# Altium footprint library control.PcbLib: 24 footprints (part 1 of 2)
Each footprint in its own frame and in the unit in brackets; x right, y up, seen from the top. Pads: shape width x height; smd on the part's side, far side on the other; paste and mask are expansions set on the pad; w line width, h text height; cw(c..) or ccw(c..) is an arc to the next point about the centre after c.
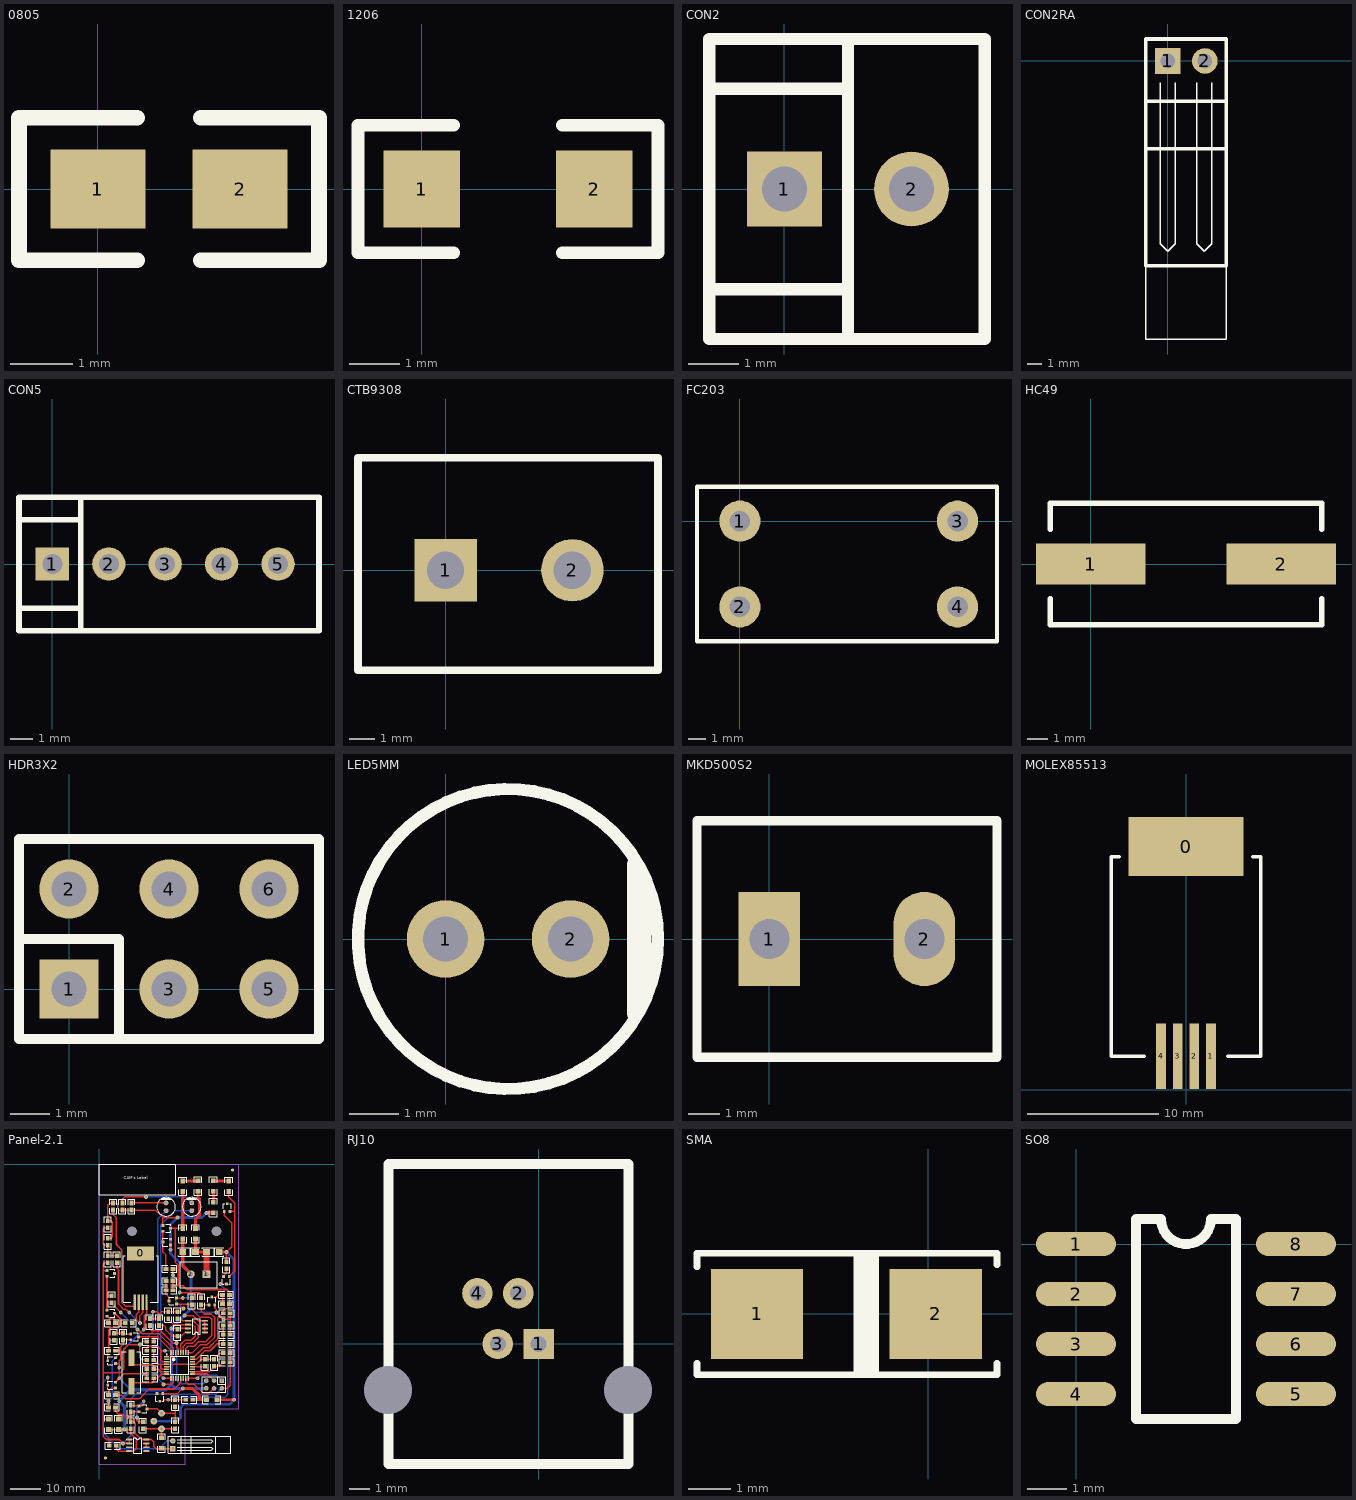
[diagram p0: the footprints below, top view; thin cyan lines are the x and y axes]

## 0805 [mil] "SMD 0805"
pads (2):
  rect 60x50 smd: 1(0,0) 2(90,0)
Top Overlay:
  lines w9.84: 25,-45 -50,-45 -50,45 25,45 ; 65,-45 140,-45 140,45 65,45

## 1206 [mil] "SMD 1206"
height 47.24
pads (2):
  rect 60x60 smd: 1(0,0) 2(135,0)
Top Overlay:
  lines w9.84: 25,-50 -50,-50 -50,50 25,50 ; 110,-50 185,-50 185,50 110,50

## CON2 [mm] "SIL CONNECTOR"
height 10
pads (2):
  rect 1.5x1.5 hole 0.9: 1(0,0)
  round 1.5 hole 0.9: 2(2.54,0)
Top Overlay:
  lines w0.25: -1.5,-2 1.25,-2 ; -1.5,2 1.25,2 ; 0.5,-3 4,-3 4,3 -1.5,3 -1.5,-3 0.635,-3 ; 1.27,-3 1.27,3

## CON2RA [mm] "SIL CONNECTOR"
height 10
pads (2):
  rect 1.75x1.75 hole 1: 1(0,0)
  round 1.75 hole 1: 2(2.54,0)
Top Overlay:
  lines w0.1: -1.5,-14 -1.5,-19 4,-19 4,-14 ; -0.5,-1.5 -0.5,-12.5 0,-13 0.5,-12.5 0.5,-1.5 ; 2,-1.5 2,-12.5 2.5,-13 3,-12.5 3,-1.5
  lines w0.25: -1.5,-2.75 4,-2.75 ; -1.5,-6 -1.5,-14 4,-14 4,-6 ; -1.5,-6 -1.5,1.5 4,1.5 4,-6 ; -1.5,-6 4,-6

## CON5 [mm] "SIL CONNECTOR"
height 10
pads (5):
  rect 1.5x1.5 hole 0.9: 1(0,0)
  round 1.5 hole 0.9: 2(2.54,0) 3(5.08,0) 4(7.62,0) 5(10.16,0)
Top Overlay:
  lines w0.25: -1.5,-2 1.25,-2 ; -1.5,2 1.25,2 ; 0.5,-3 12,-3 12,3 -1.5,3 -1.5,-3 0.635,-3 ; 1.27,-3 1.27,3

## CTB9308 [mm] "PLUGGABLE SCREW TERMINAL"
pads (2):
  rect 2.5x2.5 hole 1.5: 1(0,0)
  round 2.5 hole 1.5: 2(5.08,0)
Top Overlay:
  lines w0.305: -3.5,-4 8.5,-4 8.5,4.5 -3.5,4.5 -3.5,-4

## FC203 [mm] "Fuse Holder 5 x 15 mm"
pads (4):
  round 2.4 hole 1.2: 1(0,0) 2(0,-5) 3(12.7,0) 4(12.7,-5)
Top Overlay:
  lines w0.25: -2.5,-7 -2.5,2 15,2 15,-7 -2.5,-7

## HC49 [mm]
pads (2):
  rect 5.4x2 smd: 1(0,0) 2(9.4,0)
Top Overlay:
  lines w0.254: -2,-1.7 -2,-3 11.4,-3 11.4,-1.7 ; -2,1.7 -2,3 11.4,3 11.4,1.7

## HDR3X2 [mm] "Header 3 x 2"
height 10
pads (6):
  rect 1.5x1.5 hole 0.9: 1(0,0)
  round 1.5 hole 0.9: 2(0,2.54) 3(2.54,0) 4(2.54,2.54) 5(5.08,0) 6(5.08,2.54)
Top Overlay:
  lines w0.254: -1.27,1.27 1.27,1.27 1.27,-1.27 ; -1.27,-1.27 0.635,-1.27 6.35,-1.27 6.35,3.81 0.635,3.81 -1.27,3.81 -1.27,-1.27

## LED5MM [mil]
pads (2):
  round 62 hole 36: 1(0,0) 2(100,0)
Top Overlay:
  circle w9.84: c50,0 r120
  lines w9.84: 150,-60 150,60 ; 157.48,-49.21 157.48,49.21 ; 160,-40 160,40

## MKD500S2 [mil]
pads (2):
  rect 78x120 hole 51.18: 1(0,0)
  oval 78x120 hole 51.18: 2(196.85,0)
Top Overlay:
  lines w12: -92,-150 -92,150 289,150 289,-150 -92,-150

## MOLEX85513 [mm] "MOD JACK 4P4C SMD"
pads (5):
  rect 8.8x4.5 smd: 0(0,18.55)
  rect 0.75x5 smd: 1(1.905,2.54) 2(0.635,2.54) 3(-0.635,2.54) 4(-1.905,2.54)
Top Overlay:
  lines w0.25: -5.08,17.78 -5.715,17.78 -5.715,2.54 -3.175,2.54 ; 3.175,2.54 5.715,2.54 5.715,17.78 5.08,17.78

## Panel-2.1 [mm]
pads (237):
  round 0 hole 3.2 unplated: 0(10.7,-22) 0(38.3,-22)
  rect 8.8x4.5 smd: 0(13.5,-29.2)
  round 1 smd paste-1 mask+1: 1(2,-96) 1(43.5,-2)
  rect 0.95x0.9 smd: 1(2.5,-47.8) 1(2.5,-34.8) 1(5.25,-65.2) 1(5.25,-73.2) 1(10.25,-55.55) 1(13,-79.05) 1(20.75,-20.05) 1(23.25,-26.45) 1(25.25,-45.7) 2(2.5,-49.7) 2(2.5,-36.7) 2(5.25,-63.3) 2(5.25,-71.3) 2(10.25,-57.45) 2(13,-80.95) 2(20.75,-21.95) 2(23.25,-24.55) 2(25.25,-43.8) 3(2.75,-64.25) 3(2.75,-72.25) 3(5,-48.75) 3(5,-35.75) 3(12.75,-56.5) 3(15.5,-80) 3(20.75,-25.5) 3(22.75,-44.75) 3(23.25,-21)
  rect 1.27x1.524 smd: 1(2.75,-26.536) 1(2.75,-18.5) 1(2.75,-30) 1(4,-43) 1(4.5,-12.75) 1(4.75,-55.25) 1(5.75,-30) 1(7.5,-12.75) 1(7.75,-57.5) 1(10.25,-86.5) 1(10.25,-78.75) 1(10.5,-12.75) 1(14.25,-84.25) 1(16.5,-52.75) 1(19.5,-52.75) 1(22.5,-50.5) 1(24.75,-86.5) 1(24.75,-79.25) 1(25.5,-54) 1(25.5,-50.5) 1(30.25,-46) 1(33.25,-46) 1(34.5,-63.75) 1(37.5,-63.75) 1(41.5,-34.25) 2(2.75,-24.25) 2(2.75,-20.786) 2(2.75,-32.286) 2(4,-45.286) 2(4.5,-15.036) 2(4.75,-57.536) 2(5.75,-32.286) 2(7.5,-15.036) 2(7.75,-55.214) 2(10.25,-84.214) 2(10.25,-81.036) 2(10.5,-15.036) 2(14.25,-86.536) 2(16.5,-50.464) 2(19.5,-50.464) 2(22.5,-48.214) 2(24.75,-84.214) 2(24.75,-76.964) 2(25.5,-56.286) 2(25.5,-48.214) 2(30.25,-43.714) 2(33.25,-43.714) 2(34.5,-66.036) 2(37.5,-66.036) 2(41.5,-31.964)
  rect 1.524x1.27 smd: 1(3,-79.5) 1(3,-75.5) 1(3,-61) 1(5.25,-52) 1(5.5,-92) 1(8.5,-52) 1(15.5,-70) 1(15.5,-67) 1(15.5,-61) 1(17.75,-58) 1(17.786,-64) 1(21.75,-41.25) 1(21.75,-38.25) 1(21.75,-34.25) 1(30.5,-77) 1(40.25,-45.75) 1(40.25,-42.75) 1(40.464,-58.75) 1(40.5,-64.75) 1(40.5,-61.75) 1(42.714,-55.75) 1(42.714,-52.75) 1(42.714,-48.75) 2(2.964,-52) 2(3.214,-92) 2(5.286,-79.5) 2(5.286,-75.5) 2(5.286,-61) 2(10.786,-52) 2(15.464,-58) 2(15.5,-64) 2(17.786,-70) 2(17.786,-67) 2(17.786,-61) 2(24.036,-41.25) 2(24.036,-38.25) 2(24.036,-34.25) 2(28.214,-77) 2(40.428,-55.75) 2(40.428,-52.75) 2(40.428,-48.75) 2(42.536,-45.75) 2(42.536,-42.75) 2(42.75,-58.75) 2(42.786,-64.75) 2(42.786,-61.75)
  rect 1.524x1.524 smd: 1(3,-86.75) 1(6.25,-86.75) 1(20.3,-89.45) 1(27.25,-24.5) 1(27.25,-9) 1(31.4,-24.5) 1(32.25,-5.5) 1(35,-77) 1(37.25,-12.5) 1(37.25,-5.5) 1(42.25,-9) 2(3,-83.321) 2(6.25,-83.321) 2(20.3,-92.879) 2(27.25,-21.071) 2(27.25,-5.571) 2(31.4,-21.071) 2(32.25,-8.929) 2(37.25,-15.929) 2(37.25,-8.929) 2(38.429,-77) 2(42.25,-5.571)
  oval 2.032x0.61 smd: 1(9.75,-90) 1(34.5,-55) 2(9.75,-91.27) 2(34.5,-53.73) 3(9.75,-92.54) 3(34.5,-52.46) 4(9.75,-93.81) 4(34.5,-51.19) 5(15.338,-93.81) 5(28.912,-51.19) 6(15.338,-92.54) 6(28.912,-52.46) 7(15.338,-91.27) 7(28.912,-53.73) 8(15.338,-90) 8(28.912,-55)
  rect 2x5.4 smd: 1(10.5,-63.25) 2(10.5,-72.65)
  rect 0.75x5 smd: 1(15.405,-45.21) 2(14.135,-45.21) 3(12.865,-45.21) 4(11.595,-45.21)
  round 2.2 hole 1: 1(20.3,-81.42) 2(17.8,-84) 3(20.3,-86.5)
  rect 0.9x0.95 smd: 1(20.7,-75) 1(35.8,-46) 1(40.8,-15.5) 1(42.45,-36.75) 2(18.8,-75) 2(37.7,-46) 2(40.55,-36.75) 2(42.7,-15.5) 3(19.75,-77.5) 3(36.75,-43.5) 3(41.5,-39.25) 3(41.75,-13)
  round 1.575 hole 0.9: 1(21.8,-15.25) 1(30.2,-15.25) 2(21.8,-12.71) 2(30.2,-12.71)
  oval 1.75x0.5 smd: 1(22,-63) 2(22,-63.8) 3(22,-64.6) 4(22,-65.4) 5(22,-66.2) 6(22,-67) 7(22,-67.8) 8(22,-68.6) 17(30.4,-68.6) 18(30.4,-67.8) 19(30.4,-67) 20(30.4,-66.2) 21(30.4,-65.4) 22(30.4,-64.6) 23(30.4,-63.8) 24(30.4,-63)
  rect 1.75x1.75 hole 1: 1(24,-93)
  rect 2.15x2.1 smd: 1(27.25,-28.75) 1(35,-28.75) 2(31.42,-28.75) 2(39.17,-28.75)
  rect 2.5x2.5 hole 1.5: 1(35,-36)
  rect 1.5x1.5 hole 0.9: 1(40,-70.75)
  round 1.75 hole 1: 2(24,-90.46)
  round 2.5 hole 1.5: 2(29.92,-36)
  round 1.5 hole 0.9: 2(40,-73.29) 3(37.46,-70.75) 4(37.46,-73.29) 5(34.92,-70.75) 6(34.92,-73.29)
  oval 0.5x1.75 smd: 9(23.4,-70) 10(24.2,-70) 11(25,-70) 12(25.8,-70) 13(26.6,-70) 14(27.4,-70) 15(28.2,-70) 16(29,-70) 25(29,-61.6) 26(28.2,-61.6) 27(27.4,-61.6) 28(26.6,-61.6) 29(25.8,-61.6) 30(25,-61.6) 31(24.2,-61.6) 32(23.4,-61.6)
via 15.25,-10.75 diameter 1.27 hole 0.7
via 35,-16 diameter 1.27 hole 0.7
via 41.5,-28.75 diameter 1.27 hole 0.7
via 14.5,-77.5 diameter 1.27 hole 0.7
via 2.75,-69.75 diameter 1.27 hole 0.7
via 44,-77 diameter 1.27 hole 0.7
via 26.25,-42 diameter 1.27 hole 0.7
via 32,-70 diameter 1.27 hole 0.7
via 21.5,-61 diameter 1.27 hole 0.7
via 27.75,-49.5 diameter 1.27 hole 0.7
via 6.5,-66.5 diameter 1.27 hole 0.7
via 7.75,-91.25 diameter 1.27 hole 0.7
via 40.5,-50.75 diameter 1.27 hole 0.7
via 38.25,-48.5 diameter 1.27 hole 0.7
via 12.5,-54 diameter 1.27 hole 0.7
via 7,-48.5 diameter 1.27 hole 0.7
via 21,-72 diameter 1.27 hole 0.7
via 21,-70 diameter 1.27 hole 0.7
via 6.5,-77.5 diameter 1.27 hole 0.7
via 8.25,-86.75 diameter 1.27 hole 0.7
via 6.5,-70 diameter 1.27 hole 0.7
via 25.25,-58.5 diameter 1.27 hole 0.7
via 23.5,-53.73 diameter 1.27 hole 0.7
via 25.5,-17.5 diameter 1.27 hole 0.7
via 17.5,-48.25 diameter 1.27 hole 0.7
via 13.25,-59 diameter 1.27 hole 0.7
via 24,-36.25 diameter 1.27 hole 0.7
via 23.25,-28 diameter 1.27 hole 0.7
via 27.25,-43.75 diameter 1.27 hole 0.7
via 14.5,-54 diameter 1.27 hole 0.7
via 9.75,-48.5 diameter 1.27 hole 0.7
via 13.25,-52 diameter 1.27 hole 0.7
via 3,-77.5 diameter 1.27 hole 0.7
via 27.5,-47.25 diameter 1.27 hole 0.7
via 27.25,-73.29 diameter 1.27 hole 0.7
via 22.5,-77 diameter 1.27 hole 0.7
via 12.25,-82.75 diameter 1.27 hole 0.7
via 39.5,-39.25 diameter 1.27 hole 0.7
Top Layer:
  lines w0.45: 10.5,-65.5 17.25,-65.5 17.786,-66.036 17.786,-67 19.25,-67 20.05,-67.8 22,-67.8 ; 17.786,-61 17.786,-64 19.186,-65.4 22,-65.4 ; 20,-65.4 20,-66.5 20.5,-67 22,-67
  lines w0.5: 1.25,-68.25 6.75,-68.25 8,-67 8,-60.5 9.5,-59 13.25,-59 ; 1.25,-52 2.964,-52 ; 1.25,-34.8 2.5,-34.8 ; 1.321,-83.321 3,-83.321 ; 2.5,-49.7 3.3,-50.5 4.75,-50.5 5.25,-51 5.25,-52 ; 2.5,-47.8 2.5,-38.75 ; 2.5,-43 4,-43 ; 2.5,-39 2.5,-36.7 ; 2.75,-72.25 2.75,-69.75 ; 2.75,-64.25 2.75,-61.25 ; 2.75,-32.286 1.714,-32.286 1.25,-32.75 1.25,-89 2.25,-90 6.5,-90 7.77,-91.27 9.75,-91.27 ; 2.75,-24.25 3.75,-24.25 4.25,-23.75 4.25,-19 3.75,-18.5 2.75,-18.5 2.75,-13.5 3.5,-12.75 5.5,-12.75 6,-13.25 6,-14.5 6.536,-15.036 18.286,-15.036 20.75,-17.5 25.5,-17.5 ; 2.75,-20.786 1.714,-20.786 1.25,-21.25 1.25,-26 1.786,-26.536 2.75,-26.536 2.75,-30 ; 3,-79.5 3,-77.5 ; 3,-75.5 3,-74.25 4.05,-73.2 5.25,-73.2 ; 3,-61 3,-54.25 3.75,-53.5 6.25,-53.5 7,-52.75 7,-50.75 5,-48.75 ; 3.036,-57.536 4.75,-57.536 ; 3.25,-92 3.25,-90 ; 3.25,-86.75 3,-86.75 10.25,-86.75 10.25,-88 12,-89.75 12,-93 11.19,-93.81 6.31,-93.81 5.5,-93 5.5,-92 ; 3.893,-45.393 7,-48.5 ; 4.5,-15.036 4.5,-16.5 5.5,-17.5 5.5,-26.25 7.25,-28 7.25,-45.25 8.5,-46.5 11.562,-46.5 ; 4.75,-55.25 7.714,-55.25 ; 5.225,-71.275 8,-68.5 15.5,-68.5 ; 5.25,-65.2 6.45,-65.2 6.5,-65.25 ; 5.286,-79.5 5.286,-80.786 6.25,-81.75 ; 5.286,-75.5 7.25,-75.5 8.5,-76.75 13,-76.75 16.25,-73.5 24.5,-73.5 26.6,-71.4 26.6,-70 ; 5.286,-61 7,-61 ; 5.75,-32.286 5.75,-34 6.25,-34.5 6.25,-45.75 8,-47.5 8.75,-47.5 9.75,-48.5 ; 5.75,-30 2.75,-30 ; 6.25,-83.321 6.25,-81.75 ; 6.5,-66.5 6.5,-64.25 7,-63.75 7,-59.75 7.75,-59 7.75,-57.5 ; 7,-52 8.5,-52 ; 7.5,-12.75 7.5,-11.5 8.25,-10.75 15.25,-10.75 ; 7.8,-57.45 10.25,-57.45 ; 7.8,-55.55 10.25,-55.55 ; 9.75,-91.22 9.75,-90 ; 10.2,-80.95 13,-80.95 ; 10.25,-82.5 8.5,-82.5 7.75,-81.75 6.25,-81.75 ; 10.25,-79 14,-79 14.5,-78.5 14.5,-77.5 ; 10.336,-80.95 10.25,-81.036 10.25,-84.214 11.214,-84.214 11.75,-84.75 11.75,-88 13.75,-90 17,-90 17.75,-90.75 17.75,-92.25 18.5,-93 24,-93 ; 10.5,-71.5 17.25,-71.5 17.786,-70.964 17.786,-70 19,-70 20.4,-68.6 22,-68.6 ; 10.54,-12.71 21.8,-12.71 ; 10.786,-52 12,-50.786 12,-49.25 12.865,-48.385 12.865,-45.21 ; 12.25,-82.75 12.25,-83.75 12.75,-84.25 14.25,-84.25 ; 12.5,-54 14,-55.5 19.5,-55.5 24.2,-60.2 24.2,-61.6 ; 12.75,-56.5 19,-56.5 23.4,-60.9 23.4,-62.65 24,-63.25 24.5,-63.25 25,-62.75 25,-61.6 ; 13.25,-52 13.25,-49.5 14.135,-48.615 14.135,-45.21 ; 14.286,-86.5 24.75,-86.5 ; 14.5,-54 14.25,-54 14.75,-53.5 14.75,-49.5 15.405,-48.845 15.405,-45.21 ; 15.338,-92.54 15.338,-91.27 ; 15.464,-58 14.25,-58 13.25,-59 ; 15.5,-80 18.88,-80 20.3,-81.42 24.67,-81.42 24.75,-81.5 ; 15.5,-70 15.5,-67 ; 15.5,-64 14,-64 13.25,-63.25 13.25,-59 ; 15.5,-61 15.5,-60 16,-59.5 19,-59.5 20,-60.5 20,-64 20.6,-64.6 23.1,-64.6 23.5,-65 23.5,-65.687 22.988,-66.2 22,-66.2 ; 16.5,-52.75 16.5,-54 17,-54.5 20,-54.5 24,-58.5 25.25,-58.5 25.25,-59.75 25.8,-60.3 25.8,-61.6 ; 16.5,-50.5 19.464,-50.5 ; 17.5,-48.25 18.75,-48.25 19.5,-49 ; 17.75,-58 17.75,-56.75 ; 19.5,-52.75 21,-52.75 21.75,-53.5 21.75,-54.25 23.786,-56.286 26.714,-56.286 28,-55 ; 19.5,-50.25 19.5,-49 ; 19.75,-77.5 20.75,-77.5 21.25,-77 28.214,-77 ; 20,-61 21.5,-61 ; 20.3,-89.45 20.3,-86.5 ; 20.7,-75 25.54,-75 27.25,-73.29 ; 20.75,-21.95 20.75,-28.75 21.75,-29.75 21.75,-34.25 ; 20.75,-20.05 20.75,-17.75 ; 21,-72 23.5,-72 24.2,-71.3 24.2,-70 ; 21,-70 23.4,-70 ; 21.75,-38.25 21.75,-42.5 22.75,-43.5 22.75,-44.75 ; 22.5,-50.5 22.5,-50.75 24.21,-52.46 30.46,-52.46 31.25,-53.25 31.25,-56.25 30,-57.5 28,-57.5 26.6,-58.9 26.6,-61.6 ; 23.25,-28 23.25,-26.45 ; 23.25,-21 27.25,-21 ; 23.5,-65.4 31.6,-65.4 33.25,-63.75 37.5,-63.75 37.5,-63.5 39.25,-61.75 40.5,-61.75 ; 23.5,-53.73 28.912,-53.73 ; 24.036,-41.25 24.036,-38.25 ; 24.036,-39.75 27.25,-39.75 28.5,-41 41.75,-41 42.536,-41.786 42.536,-46.714 42,-47.25 41,-47.25 40.428,-47.822 40.428,-48.75 ; 24.036,-36.214 24.036,-34.25 ; 24.75,-84.214 24.75,-79.25 ; 24.75,-21 24.75,-32 25.75,-33 25.75,-39.75 ; 25.25,-45.75 30.25,-45.75 30.25,-47.5 32.75,-50 36,-50 36.75,-50.75 36.75,-56 34.75,-58 32.5,-58 31,-59.5 29,-59.5 28.2,-60.3 28.2,-61.6 ; 25.25,-43.8 26.7,-43.8 ; 25.5,-50.5 26.5,-50.5 27.19,-51.19 30.69,-51.19 32.25,-52.75 32.25,-56.75 30.5,-58.5 28.5,-58.5 27.4,-59.6 27.4,-61.6 ; 26.25,-42 32.75,-42 33.25,-42.5 33.25,-43.714 ; 27.5,-47.25 26.536,-48.214 20.286,-48.214 19.5,-49 ; 27.75,-49.5 30.5,-49.5 32.19,-51.19 34.5,-51.19 34.5,-55 ; 28.2,-70 28.2,-71.2 29,-72 31,-72 34,-75 35.75,-75 37.46,-73.29 ; 29,-70 32,-70 ; 29,-61.6 30.4,-61.6 33,-59 35.25,-59 37.75,-56.5 37.75,-50.25 36.5,-49 34.25,-49 33.25,-48 33.25,-46 35.8,-46 ; 30.25,-43.714 30.25,-42.25 ; 30.4,-68.6 35.31,-68.6 37.46,-70.75 ; 30.4,-67.8 35.95,-67.8 37.714,-66.036 39.214,-66.036 40.5,-64.75 ; 30.4,-66.2 34.5,-66.2 ; 30.4,-63.8 31.7,-63.8 34.5,-61 36.25,-61 38.5,-58.75 40.428,-58.75 40.428,-52.75 ; 30.4,-63 31,-63 34,-60 35.75,-60 38.75,-57 38.75,-50.25 40.25,-48.75 ; 30.5,-77 30.5,-76.99 ; 36.75,-43.5 38,-43.5 38.75,-42.75 40.25,-42.75 40.25,-45.75 ; 37.7,-46 37.7,-46.95 38.25,-47.5 38.25,-48.5 ; 39.5,-39.25 41.5,-39.25 ; 40,-73.29 41.71,-73.29 42.75,-72.25 42.75,-58.75 ; 40.5,-50.75 42.714,-50.75 ; 40.55,-36.75 40.55,-36.45 41.5,-35.5 41.5,-34.25 ; 40.8,-15.5 40.8,-16.8 43.25,-19.25 43.25,-27 41.5,-28.75 ; 41.5,-31.964 41.5,-29.5 ; 42.25,-9 42.25,-10.75 44.25,-12.75 44.25,-34.95 42.45,-36.75 ; 42.7,-15.5 44.25,-15.5 ; 42.714,-55.75 42.714,-48.75 ; 2.75,-30 2.75,-30 ; 6.5,-77.5 6.5,-77.5
  lines w0.9: 38.429,-77 44,-77 ; 39.17,-28.75 41.5,-28.75
  lines w1: 27.25,-73.29 30.29,-73.29 32.75,-75.75 32.75,-77 ; 27.25,-24.5 27.25,-33.25 29.92,-35.92 29.92,-36 ; 27.25,-21 27.25,-9 ; 27.25,-5.571 32.25,-5.571 ; 30.5,-77 35,-77 ; 31.4,-21.071 31.4,-18.1 32.75,-16.75 32.75,-11.5 32.25,-11 32.25,-8.929 ; 31.42,-24.52 31.42,-28.75 35,-28.75 ; 35,-16 35.071,-15.929 37.25,-15.929 ; 37.25,-12.5 37.25,-8.929 ; 37.25,-5.5 42.179,-5.5 ; 35,-36 35,-36 ; 35,-36 35,-36
  lines w2: 35,-36 35,-28.75
  text "Plasmatronics" at 26,-2 h0.9
  text "Diverter 2.1" at 26,-3.5 h0.9
Bottom Layer:
  lines w0.5: 2.75,-69.75 1.25,-71.25 1.25,-87.81 6.44,-93 19.5,-93 22.04,-90.46 24,-90.46 ; 3,-77.5 4.25,-76.25 4.25,-64.25 14.5,-54 ; 6.5,-66.5 6.5,-70 10.25,-73.75 ; 7,-48.5 12.5,-54 ; 7.75,-91.25 10.25,-88.75 10.25,-76.75 11.75,-75.25 38.04,-75.25 40,-73.29 ; 9.75,-48.5 13.25,-52 ; 12.25,-82.75 12.25,-79.75 14.5,-77.5 ; 13.25,-59 17.5,-54.75 17.5,-48.25 ; 15.25,-10.75 28.24,-10.75 30.2,-12.71 ; 21,-72 19,-70 19,-18.05 21.8,-15.25 ; 21,-70 20,-69 20,-20 24.75,-15.25 30.2,-15.25 ; 21.5,-61 23.5,-61 ; 22.5,-77 23.25,-76.25 41,-76.25 42,-75.25 42,-41.75 39.5,-39.25 ; 24,-36.25 26.25,-38.5 26.25,-42 25,-43.25 25,-44.75 27.5,-47.25 ; 25.25,-58.5 25.25,-70.75 26.25,-71.75 33.92,-71.75 34.92,-70.75 ; 27.25,-43.75 30,-43.75 ; 29.92,-47 31.42,-48.5 38.25,-48.5 40.5,-50.75 ; 32,-70 33,-69 38.25,-69 40,-70.75
  lines w0.9: 17.8,-84 25.5,-84 26.5,-83 26.5,-79.5 27.5,-78.5 42.5,-78.5 44,-77 44,-31.25 41.5,-28.75
  lines w1: 8.25,-86.75 8.25,-79.25 6.5,-77.5 10.25,-73.75 21.75,-73.75 23.5,-72 ; 34.92,-73.29 24.79,-73.29 23.5,-72 ; 35,-16 33.5,-17.5 25.5,-17.5 23.25,-19.75 23.25,-29.25 29.92,-35.92 29.92,-47.31 23.5,-53.73 23.5,-72
Top Overlay:
  drawing of 499 lines, arcs and shapes, not listed
  text "CAM's Label" at 8,-5 h0.9
Bottom Overlay:
  circle w0.254: c38.3,-84 r1.75
  lines w0.254: 25.8,-87 22.8,-87 22.8,-86 25.8,-86 ; 25.8,-84.5 22.8,-84.5 22.8,-83.5 25.8,-83.5 ; 25.8,-82 22.8,-82 22.8,-81 25.8,-81 ; 25.8,-89.25 25.8,-78.75 42.3,-78.75 42.3,-89.25 25.8,-89.25
Mechanical 1:
  lines w0.1: 0,-98 0,0 45.5,0 45.5,-80 28,-80 28,-98 0,-98

## RJ10 [mm] "RJ10"
pads (6):
  round 0 hole 2.4 unplated: 0(-7.53,-2.3) 0(4.47,-2.3)
  rect 1.524x1.524 hole 0.8: 1(0,0)
  round 1.524 hole 0.8: 2(-1.02,2.54) 3(-2.04,0) 4(-3.06,2.54)
Top Overlay:
  lines w0.5: -7.5,-6 -7.5,9 4.5,9 4.5,-6 -7.5,-6

## SMA [mm]
pads (2):
  rect 2.15x2.1 smd: 1(-4,0) 2(0.17,0)
Top Overlay:
  rectangle: -1.5,-1.414 -1.15,1.414
  rectangle: -1.75,-1.414 -1.4,1.414
  lines w0.152: -5.4,-1.15 -5.4,-1.414 -0.945,-1.414 1.6,-1.414 1.6,-1.15 ; -5.4,1.1 -5.4,1.414 -0.945,1.414 1.6,1.414 1.6,1.15

## SO8 [mil]
height 393.7
pads (8):
  oval 80x24 smd: 1(0,0) 2(0,-50) 3(0,-100) 4(0,-150) 5(220,-150) 6(220,-100) 7(220,-50) 8(220,0)
Top Overlay:
  lines w9.84: 60,-175 60,25 85,25 ccw(c110,25) 135,25 160,25 160,-175 60,-175